# Altium schematic symbol library JT3.SchLib: 1 symbol
Pins are listed as number, name and electrical type; pins without a type are passive.

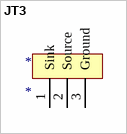
[diagram p0: symbol JT3]

## JT3
designator *
footprint JT3
pins: 1 Sink, 2 Source, 3 Ground